# Altium integrated library TEM-HUM-AM2302_4P-25.0X15.0MM_.IntLib: 1 symbol
Pins are listed as number, name and electrical type; pins without a type are passive.

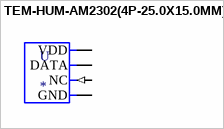
[diagram p0: symbol TEM-HUM-AM2302(4P-25.0X15.0MM)]

## TEM-HUM-AM2302(4P-25.0X15.0MM)
designator U
AM2302/DHT22 Humidity, Temperature Sensor mikroBUSâ„¢ Clickâ„¢ Platform Evaluation Expansion Board; MF: Seeed Technology; MP: AM2302; Value: *; Package: Housed Sensor Seeed Technology; Price: None; Availability: Unavailable; SnapEDA_Link: https://www.snapeda.com/parts/AM2302/Seeed%20Technology%20Co.%2C%20Ltd/view-part/1087537/?ref=snap
footprint SNR4-2.54-25.0X15.0X7.0MM
pins: P$1 VDD (power), P$2 DATA (io), P$3 NC (in), P$4 GND (power)